# EAGLE library part MIC2042-2 (library micrel)
Protected Power Distribution Switch Single Channel, High Current, Low Voltage
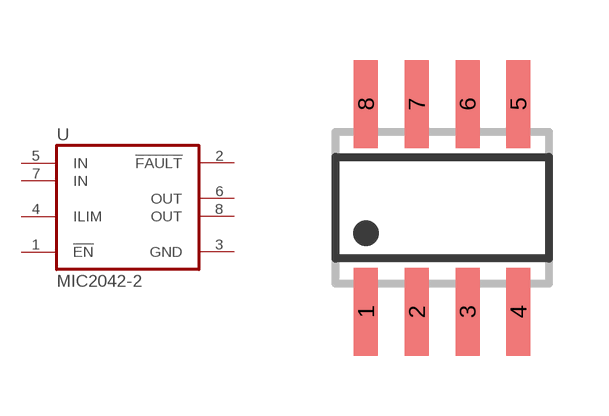
[diagram p18: symbol with the pads of SO08; footprint SO08]

Designator prefix U

## MIC2042-2  [SO08]
1  !EN!  in
2  !FAULT!  oc
3  GND  in
4  ILIM  in
5  IN  in
6  OUT  pas
7  IN  in
8  OUT  pas

## Footprint SO08 (pad centres in mm)
SMALL OUTLINE INTEGRATED CIRCUIT body 3.9 mm/JEDEC MS-012AA
smd 0.6 x 2.2: 1 -1.905,-2.6; 2 -0.635,-2.6; 3 0.635,-2.6; 4 1.905,-2.6; 5 1.905,2.6; 6 0.635,2.6; 7 -0.635,2.6; 8 -1.905,2.6